# Altium footprint library KEMET-SSR10HS-22026.PcbLib: 1 footprints
Each footprint in its own frame and in the unit in brackets; x right, y up, seen from the top. Pads: shape width x height; smd on the part's side, far side on the other; paste and mask are expansions set on the pad; w line width, h text height; cw(c..) or ccw(c..) is an arc to the next point about the centre after c.
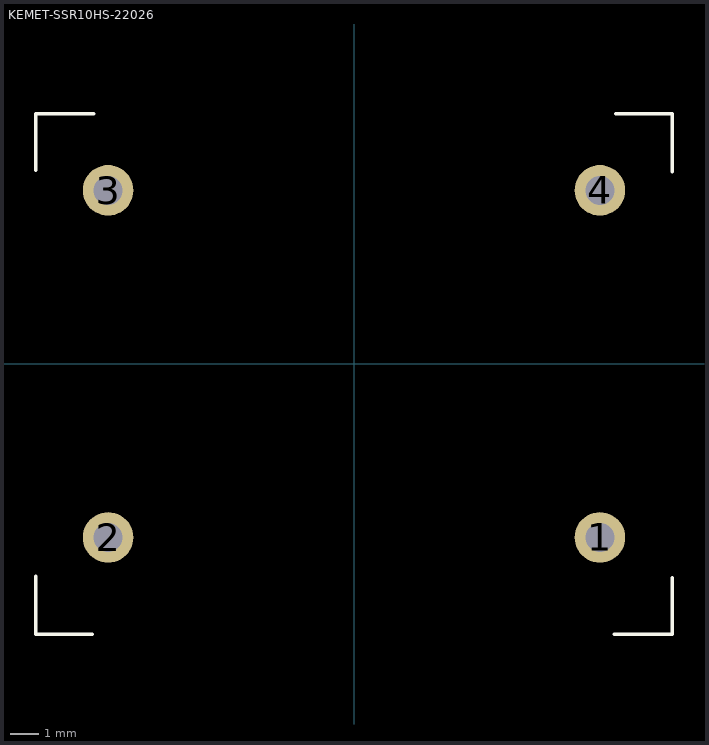
[diagram p0: the footprint, top view; thin cyan lines are the x and y axes]

## KEMET-SSR10HS-22026 [mm] "Kemet Common Mode Choke"
pads (4):
  round 1.75 hole 1: 1(8.5,-6) 2(-8.5,-6) 3(-8.5,6) 4(8.5,6)
Top Overlay:
  lines w0.127: -11,-7.35 -11,-9.35 -9.05,-9.35 ; -11,6.7 -11,8.65 -9,8.65 ; 9,-9.35 11,-9.35 11,-7.4 ; 9.05,8.65 11,8.65 11,6.65
3D body "SSR10HS-22026.step": height 13.85, standoff -3.15, extent -11,-9.35 11,8.65